# Altium footprint library SnapEDApcb.PcbLib: 1 footprints
Each footprint in its own frame and in the unit in brackets; x right, y up, seen from the top. Pads: shape width x height; smd on the part's side, far side on the other; paste and mask are expansions set on the pad; w line width, h text height; cw(c..) or ccw(c..) is an arc to the next point about the centre after c.
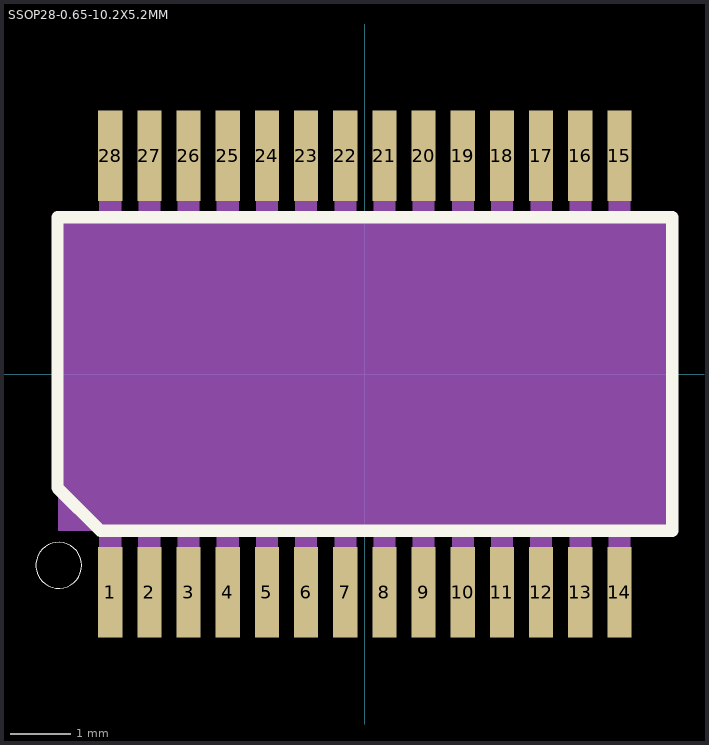
[diagram p0: the footprint, top view; thin cyan lines are the x and y axes]

## SSOP28-0.65-10.2X5.2MM [mm]
pads (28):
  rect 0.4x1.5 smd: 1(-4.225,-3.625) 2(-3.575,-3.625) 3(-2.925,-3.625) 4(-2.275,-3.625) 5(-1.625,-3.625) 6(-0.975,-3.625) 7(-0.325,-3.625) 8(0.325,-3.625) 9(0.975,-3.625) 10(1.625,-3.625) 11(2.275,-3.625) 12(2.925,-3.625) 13(3.575,-3.625) 14(4.225,-3.625) 15(4.225,3.625) 16(3.575,3.625) 17(2.925,3.625) 18(2.275,3.625) 19(1.625,3.625) 20(0.975,3.625) 21(0.325,3.625) 22(-0.325,3.625) 23(-0.975,3.625) 24(-1.625,3.625) 25(-2.275,3.625) 26(-2.925,3.625) 27(-3.575,3.625) 28(-4.225,3.625)
Top Overlay:
  circle w0: c-5.08,-3.175 r0.381
  lines w0.203: -5.1,-1.89 -5.1,2.6 5.1,2.6 5.1,-2.6 -4.39,-2.6 -5.1,-1.89
Mechanical 13:
  region: -4.047,-3.939 -4.405,-3.939 -4.405,-2.642 -4.047,-2.642
  region: -3.397,-3.945 -3.76,-3.945 -3.76,-2.642 -3.397,-2.642
  region: -2.747,-3.939 -3.104,-3.939 -3.104,-2.642 -2.747,-2.642
  region: -2.097,-3.943 -2.456,-3.943 -2.456,-2.642 -2.097,-2.642
  region: -1.447,-3.939 -1.804,-3.939 -1.804,-2.642 -1.447,-2.642
  region: -0.797,-3.943 -1.155,-3.943 -1.155,-2.642 -0.797,-2.642
  region: -0.147,-3.945 -0.504,-3.945 -0.504,-2.642 -0.147,-2.642
  region: 0.503,-3.937 0.147,-3.937 0.147,-2.642 0.503,-2.642
  region: 1.153,-3.94 0.798,-3.94 0.798,-2.642 1.153,-2.642
  region: 1.803,-3.941 1.449,-3.941 1.449,-2.642 1.803,-2.642
  region: 2.453,-3.94 2.099,-3.94 2.099,-2.642 2.453,-2.642
  region: 3.103,-3.937 2.747,-3.937 2.747,-2.642 3.103,-2.642
  region: 3.753,-3.942 3.401,-3.942 3.401,-2.642 3.753,-2.642
  region: 4.403,-3.939 4.05,-3.939 4.05,-2.642 4.403,-2.642
  region: 4.403,2.644 4.051,2.644 4.051,3.937 4.403,3.937
  region: 3.753,2.646 3.404,2.646 3.404,3.937 3.753,3.937
  region: 3.103,2.647 2.753,2.647 2.753,3.937 3.103,3.937
  region: 2.453,2.645 2.1,2.645 2.1,3.937 2.453,3.937
  region: 1.803,2.645 1.449,2.645 1.449,3.937 1.803,3.937
  region: 1.153,2.643 0.798,2.643 0.798,3.937 1.153,3.937
  region: 0.503,2.644 0.147,2.644 0.147,3.937 0.503,3.937
  region: -0.147,2.644 -0.503,2.644 -0.503,3.937 -0.147,3.937
  region: -0.797,2.646 -1.155,2.646 -1.155,3.937 -0.797,3.937
  region: -1.447,2.646 -1.806,2.646 -1.806,3.937 -1.447,3.937
  region: -2.097,2.644 -2.455,2.644 -2.455,3.937 -2.097,3.937
  region: -2.747,2.646 -3.108,2.646 -3.108,3.937 -2.747,3.937
  region: -3.397,2.643 -3.755,2.643 -3.755,3.937 -3.397,3.937
  region: -4.047,2.644 -4.406,2.644 -4.406,3.937 -4.047,3.937
Mechanical 15:
  region: 5.08,-2.604 -5.088,-2.604 -5.088,2.6 5.08,2.6